# Altium footprint library F429_F746_MB_PCB.PcbLib: 52 footprints (part 2 of 4)
Each footprint in its own frame and in the unit in brackets; x right, y up, seen from the top. Pads: shape width x height; smd on the part's side, far side on the other; paste and mask are expansions set on the pad; w line width, h text height; cw(c..) or ccw(c..) is an arc to the next point about the centre after c.
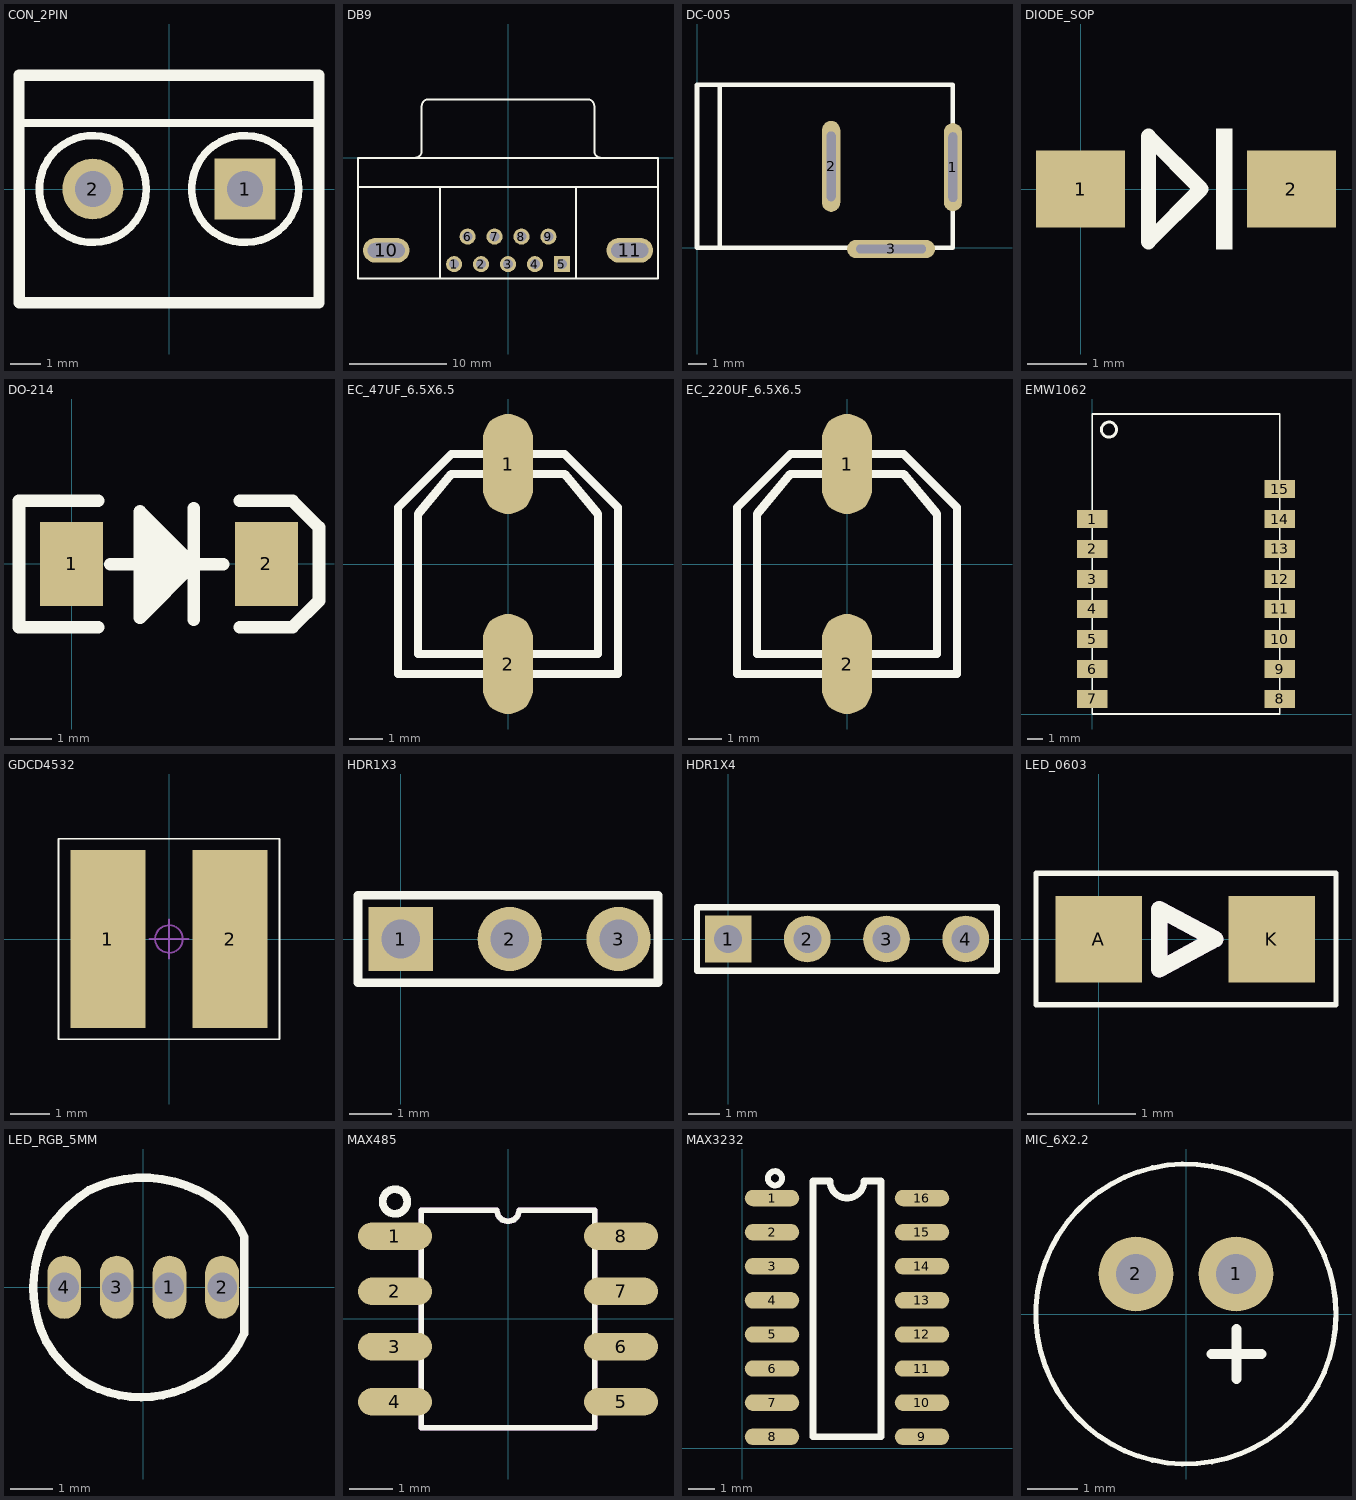
[diagram p1: the footprints below, top view; thin cyan lines are the x and y axes]

## CON_2PIN [mil]
pads (2):
  rect 80x80 hole 47.24: 1(100,0)
  round 80 hole 47.24: 2(-100,0)
Top Overlay:
  circle w10: c-100,0 r70.21
  circle w10: c100,0 r70.21
  lines w10: -197,86.61 197,86.61
  lines w15: -197,149.61 -196.85,-149.61 197,-149.61 197,149.61 -197,149.61

## DB9 [mil]
pads (11):
  round 65 hole 40: 1(-218.11,-429.92) 2(-109.06,-429.92) 3(0,-429.92) 4(109.06,-429.92) 6(-163.58,-318.11) 7(-54.53,-318.11) 8(54.53,-318.11) 9(163.58,-318.11)
  rect 65x65 hole 40: 5(218.11,-429.92)
  oval 187.4x100 hole 60 slot 150 at 0 deg: 10(-491.93,-374.02) 11(491.93,-374.02)
Top Overlay:
  lines w7.87: -606.3,-118.11 606.3,-118.11 ; -376.38,0.2 ccw(c-376.38,27.56) -349.02,27.56 -348.82,208.86 cw(c-321.46,208.86) -321.46,236.22 321.46,236.22 cw(c321.46,208.86) 348.82,208.86 349.02,27.56 ccw(c376.38,27.56) 376.38,0.2 ; -275.59,-488.19 -275.59,-118.11 ; 275.59,-488.19 275.59,-118.11 ; -606.3,-488.19 -606.3,0 606.3,0 606.3,-488.19 -606.3,-488.19

## DC-005 [mil]
pads (3):
  oval 39.37x190 hole 19 slot 150 at 90 deg: 1(551.18,173.2)
  oval 39.37x196 hole 19 slot 150 at 90 deg: 2(289,175)
  oval 190x39.37 hole 19 slot 150 at 0 deg: 3(418,-3)
Top Overlay:
  lines w10: 49,2 49,350.39 ; 0,0 551.18,0 551.18,350.39 0,350.39 0,0

## DIODE_SOP [mm]
pads (2):
  rect 1.5x1.3 smd: 1(0,0) 2(3.556,0)
Top Overlay:
  region: 2.286,-1.016 2.559,-1.016 2.559,1.016 2.286,1.016
  lines w0.254: 1.143,-0.889 1.143,0.889 2.032,0 1.143,-0.889

## DO-214 [mil]
pads (2):
  rect 60x80 smd: 1(0,0) 2(185,0)
Top Overlay:
  region: 64.92,-25.05 91,-25.05 91,22.87 64.92,22.87
  lines w12: 25,-60 -50,-60 -50,60 25,60 ; 36.92,-0.13 143.92,-0.13 ; 64.92,33.87 100.29,-1.51 66.66,-35.13 ; 115.92,-53.13 115.92,52.87 ; 160,-60 209.92,-60 235,-34.92 235,34.87 209.87,60 160,60 ; 64.92,-51.13 64.92,49.87 115.92,-1.13 115.92,-0.13 64.92,-51.13

## EC_47UF_6.5X6.5 [mm]
pads (2):
  oval 1.5x3 smd: 1(0,3) 2(0,-3)
Top Overlay:
  lines w0.254: -3.3,-3.3 -3.3,1.7 -1.7,3.3 1.7,3.3 3.3,1.7 3.3,-3.3 -3.3,-3.3 ; -2.7,-2.7 -2.7,1.5 -1.7,2.7 1.7,2.7 2.7,1.5 2.7,-2.7 -2.7,-2.7

## EC_220UF_6.5X6.5 [mm]
pads (2):
  oval 1.5x3 smd: 1(0,3) 2(0,-3)
Top Overlay:
  lines w0.254: -3.3,-3.3 -3.3,1.7 -1.7,3.3 1.7,3.3 3.3,1.7 3.3,-3.3 -3.3,-3.3 ; -2.7,-2.7 -2.7,1.5 -1.7,2.7 1.7,2.7 2.7,1.5 2.7,-2.7 -2.7,-2.7

## EMW1062 [mm]
pads (15):
  rect 2x1.22 smd: 1(0,13) 2(0,11) 3(0,9) 4(0,7) 5(0,5) 6(0,3) 7(0,1) 8(12.5,1) 9(12.5,3) 10(12.5,5) 11(12.5,7) 12(12.5,9) 13(12.5,11) 14(12.5,13) 15(12.5,15)
Top Overlay:
  circle w0.2: c1.117,18.96 r0.503
  lines w0.127: 0,0 12.5,0 12.5,20 0,20 0,0

## GDCD4532 [mm]
height 5.3
pads (2):
  rect 1.9x4.5 smd: 1(-1.55,0) 2(1.55,0)
Top Overlay:
  lines w0.05: -2.794,-2.54 -2.794,2.54 2.794,2.54 2.794,-2.54 -2.794,-2.54
Mechanical 16:
  circle w0.05: c0,0 r0.35
  lines w0.05: -0.5,0 0.5,0 ; 0,-0.5 0,0.5

## HDR1X3 [mm]
height 1.2
pads (3):
  rect 1.5x1.5 hole 0.9: 1(0,0)
  round 1.5 hole 0.9: 2(2.54,0) 3(5.08,0)
Top Overlay:
  lines w0.2: -1,-1.016 6,-1.016 6,1.016 -1,1.016 -1,-1.016

## HDR1X4 [mm]
height 1.2
pads (4):
  rect 1.5x1.5 hole 0.9: 1(0,0)
  round 1.5 hole 0.9: 2(2.54,0) 3(5.08,0) 4(7.62,0)
Top Overlay:
  lines w0.2: -1,-1.016 8.625,-1.016 8.625,1.016 -1,1.016 -1,-1.016

## LED_0603 [mm]
pads (2):
  rect 0.8x0.8 smd: A(0,0) K(1.6,0)
Top Overlay:
  lines w0.051: -0.579,-0.605 -0.579,0.607 2.193,0.607 2.193,-0.605 -0.579,-0.605
  lines w0.152: 0.562,-0.277 0.562,0.277 1.076,0.001 0.562,-0.277
Mechanical 1:
  lines w0.152: 0.562,-0.277 0.562,0.277 1.076,0.001 0.562,-0.277

## LED_RGB_5MM [mm]
pads (4):
  oval 0.8x1.5 hole 0.7: 1(0.625,0) 2(1.875,0) 3(-0.625,0) 4(-1.875,0)
Top Overlay:
  lines w0.2: -2.301,-1.298 cw(c0.302,0) -2.299,1.302 ; -2.3,-1.3 ccw(c0.053,0.053) -1.3,-2.3 ccw(c-0.05,0.051) 1.2,-2.3 ; -2.298,1.303 cw(c0.647,-0.647) -1.297,2.302 cw(c0,-0.348) 1.302,2.299 ; 1.198,-2.301 ccw(c0.249,-0.149) 2.399,-1.102 ; 1.298,2.301 cw(c0.45,0.35) 2.399,1.202 ; 2.4,-1.1 2.4,1.2

## MAX485 [mm]
pads (8):
  oval 1.7x0.635 smd: 1(-2.6,1.905) 2(-2.6,0.635) 3(-2.6,-0.635) 4(-2.6,-1.905) 5(2.6,-1.905) 6(2.6,-0.635) 7(2.6,0.635) 8(2.6,1.905)
Top Overlay:
  circle w0.178: c-2.6,2.7 r0.283
  lines w0.127: -2,-2.5 2,-2.5 2,2.5 0.254,2.5 cw(c0,2.5) -0.254,2.5 -2,2.5 -2,-2.5
Mechanical 1:
  lines w0.127: -2,-2.5 2,-2.5 2,2.5 0.254,2.5 cw(c0,2.5) -0.254,2.5 -2,2.5 -2,-2.5

## MAX3232 [mil]
pads (16):
  oval 80x24 smd: 1(44,367) 2(44,317) 3(44,267) 4(44,217) 5(44,167) 6(44,117) 7(44,67) 8(44,17) 9(264,17) 10(264,67) 11(264,117) 12(264,167) 13(264,217) 14(264,267) 15(264,317) 16(264,367)
Top Overlay:
  circle w8.66: c48.43,396.06 r10.39
  lines w10: 104,17 104,392 129,392 ccw(c154,392) 179,392 204,392 204,17 104,17

## MIC_6X2.2 [mm]
pads (2):
  round 1.5 hole 0.8: 1(1,0.8) 2(-1,0.8)
Top Overlay:
  circle w0.102: c0,0 r3
  lines w0.2: 0.506,-0.803 1.506,-0.803 ; 1.006,-1.303 1.006,-0.303